# EAGLE library part JP5Q (library jumper)
JUMPER
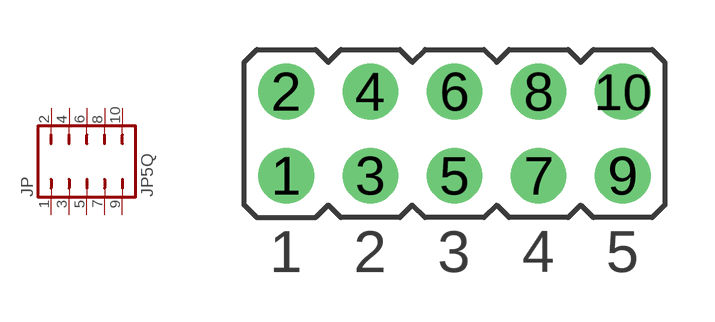
[diagram p10: symbol with the pads of JP5Q; footprint JP5Q]

Designator prefix JP

## JP5Q  [JP5Q]
1  1  pas
2  2  pas
3  3  pas
4  4  pas
5  5  pas
6  6  pas
7  7  pas
8  8  pas
9  9  pas
10  10  pas

## Footprint JP5Q (pad centres in mm)
JUMPER
drill 0.914 pad 1.676 round: 1 -5.08,-1.27; 3 -2.54,-1.27; 5 0,-1.27; 6 0,1.27; 7 2.54,-1.27; 8 2.54,1.27; 9 5.08,-1.27; 10 5.08,1.27
drill 0.9 pad 1.676 round: 2 -5.08,1.27; 4 -2.54,1.27